# Altium schematic symbol library Capacitors.SchLib: 53 symbols
Pins are listed as number, name and electrical type; pins without a type are passive.

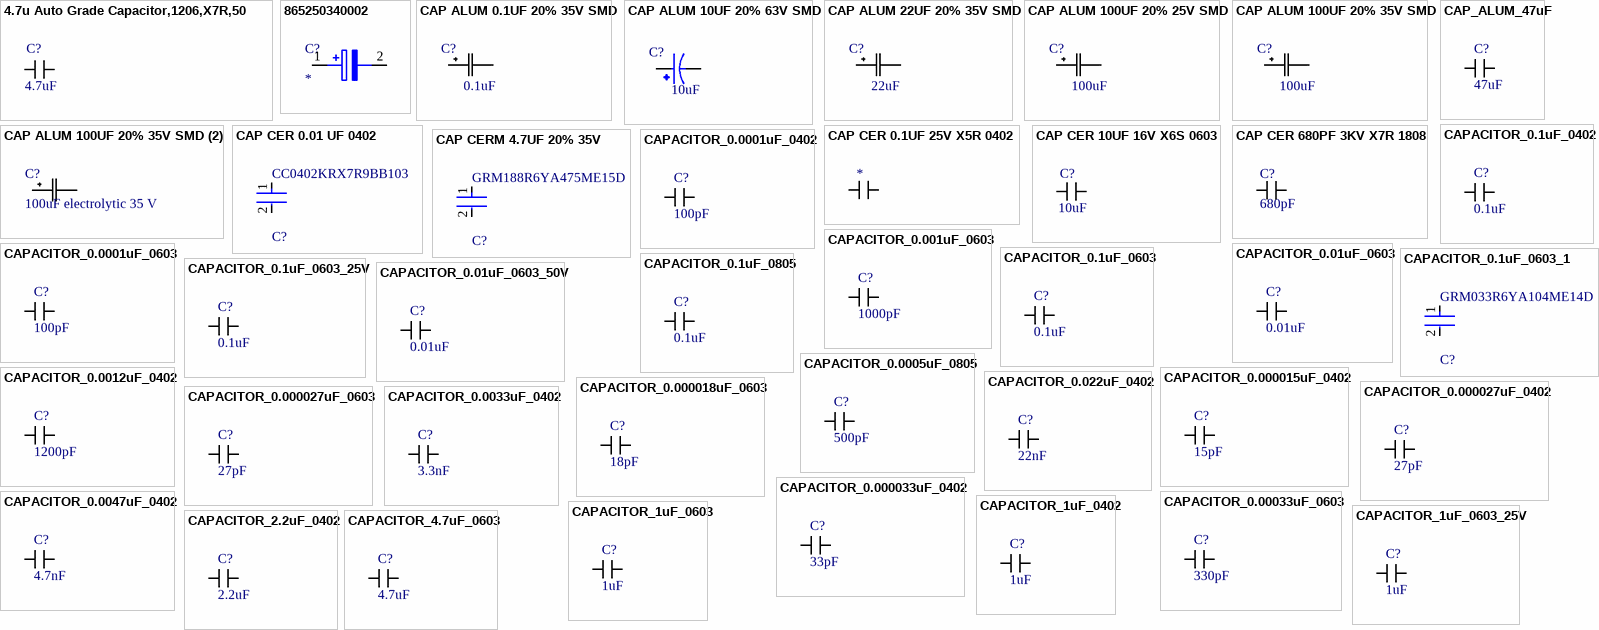
[diagram p0: symbols 4.7u Auto Grade Capacitor,1206,X7R,50 to CAPACITOR_4.7uF_0603]

## 4.7u Auto Grade Capacitor,1206,X7R,50
designator C?, comment value 4.7uF  (hidden comment: AGC1206X7R500-475KXE*)
4.7 µF ±10% 50V Ceramic Capacitor X7R 1206 (3216 Metric)
footprint CAPACITOR_1206
pins: 1, 2

## 865250340002
designator C?
4.7µF 16V Aluminum Electrolytic Capacitors Radial, Can - SMD 2000 Hrs @ 85Â°C; Value: 4.7ÂµF; MP: 865250340002; MF: Wurth Elektronik; SnapEDA_Link: https://www.snapeda.com/parts/865250340002/W%C3%BCrth%20Elektronik/view-part/5002976/?ref=snap; Purchase-URL: https://pricing.snapeda.com/search/part/865250340002/?ref=eda; Check_prices: https://www.snapeda.com/parts/865250340002/W%C3%BCrth%20Elektronik/view-part/5002976/?ref=eda; Availability: Warning; Price: None; Package: None; Supplier 1: Mouser; Supplier Part Number 1: 710-865250340002
footprint CAPAE430X550N
pins: 1 POS (io), 2 NEG (io)

## CAP ALUM 0.1UF 20% 35V SMD
designator C?, comment value 0.1uF  (hidden comment: 0.1uF electrolytic 35 V)
0.1 µF 35 V Aluminum Electrolytic Capacitors Radial, Can - SMD 7000 Hrs @ 105°C; Mfr_Name: Nichicon; Manufacturer_Part_Number: UCB1V0R1MCL1GS; Type: DEV; Made by: Tyson Nguyen; Copyright: Copyright (C) 2022 Ultra Librarian. All rights reserved.; RefDes: RefDes; Supplier 1: Digi-Key; Supplier Part Number 1: 493-9956-1-ND
footprint U2-D_NCH
pins: 1, 2

## CAP ALUM 10UF 20% 63V SMD
designator C?, comment value 10uF  (hidden comment: 10uF electrolytic 63V)
10 µF 63 V Aluminum - Polymer Capacitors Radial, Can SMD 120mOhm; Made by: Robert Pafford; Tolerance: +/- 20%; Max Voltage: 63V; Supplier 1: Digi-Key; Supplier Part Number 1: P15466CT-ND
footprint CAP_EEHZC1J100P
pins: 1, 2

## CAP ALUM 22UF 20% 35V SMD
designator C?, comment value 22uF  (hidden comment: 22uF electrolytic 35 V)
22 µF 35 V Aluminum Electrolytic Capacitors Radial, Can - SMD 1000 Hrs; Made by: Robert Pafford; Voltage: 35V; Supplier 1: Digi-Key; Supplier Part Number 1: PCE3952DKR-ND
footprint PCAP_8x5.4-ELECT_NCA
pins: 1, 2

## CAP ALUM 100UF 20% 25V SMD
designator C?, comment value 100uF  (hidden comment: 100uF electrolytic 25 V)
100 µF 25 V Aluminum Electrolytic Capacitors Radial, Can - SMD 2000 Hrs; Mfr_Name: Nichicon; Manufacturer_Part_Number: UCB1V0R1MCL1GS; Type: DEV; Made by: Tyson Nguyen; Copyright: Copyright (C) 2022 Ultra Librarian. All rights reserved.; RefDes: RefDes; Supplier 1: Mouser; Supplier Part Number 1: 647-UCB1E101MNL1GS
footprint PCAP_8x5.4-ELECT_NCA
pins: 1, 2

## CAP ALUM 100UF 20% 35V SMD
designator C?, comment value 100uF  (hidden comment: 100uF electrolytic 35 V)
100 µF 35 V Aluminum Electrolytic Capacitors Radial, Can - SMD 1000 Hrs; Mfr_Name: Nichicon; Manufacturer_Part_Number: UCB1V0R1MCL1GS; Type: DEV; Made by: Tyson Nguyen; Copyright: Copyright (C) 2022 Ultra Librarian. All rights reserved.; RefDes: RefDes; Supplier 1: Mouser; Supplier Part Number 1: 667-EEE-FT1V101AP
footprint PCAP_8x5.4-ELECT_NCA
pins: 1, 2

## CAP ALUM 100UF 20% 35V SMD (2)
designator C?, comment 100uF electrolytic 35 V
Aluminum Electrolytic Capacitors - SMD 35V 100uF 0810 20%; Supplier 1: Mouser; Supplier Part Number 1: 581-AEA0810101M035R; Created By: John Ulm; V: 35V
footprint CAPAE830X1100N
pins: 1, 2

## CAP CER 0.01 UF 0402
designator C?, comment CC0402KRX7R9BB103
CAP CER 10000PF 50V X7R 0402; Manufacturer: YAGEO; Temperature Coefficient: 30ppm/°C; Capacitance: 10 nF; Material: Ceramic; Automotive Grade: NA; Tolerance: 0.1; Value: 10 nF; Device Class L3: Ceramic Capacitors; Temperature: -55°C to +125°C; Footprint Url: http://www.yageo.com/exep/pages/download/literatures/UPY-C_GEN_24.pdf; Ipc Land Pattern Name: CAPC10050X50; Device Class L1: Passive Components; Automotive: No; Octopart: https://octopart.com/cc0402krx7r9bb103-yageo-8376513; Manufacturer Part Number: CC0402KRX7R9BB103; Lead Free: Yes; Temperature Range Low: -55°C; Height: 0.55mm; ComponentLink2URL: http://www.yageo.com/documents/recent/UPY-GP_NP0_16V-to-50V_16.pdf; Category: Cap; ComponentLink2Description: Datasheet; Temperature Range High: +125°C; Digikey Description: CAP CER 10000PF 50V X7R 0402; Voltage Rating: 50 V; Package: CC0402; Device Class L2: Capacitors; Mouser Description: 0402 10 nF 50 V ±10 % Tolerance X7R SMT Multilayer Ceramic Capacitor; RoHS: TRUE; Temperature Characteristic: X7R; Supplier 1: Future Electronics; Supplier Part Number 1: 8570871
footprint CAPACITOR_0402
pins: 1, 2

## CAP CER 0.1UF 25V X5R 0402
designator *, comment *CL05A104KA5NNNC  (value not drawn)
0.1 µF ±10% 25V Ceramic Capacitor X5R 0402 (1005 Metric); Name: Zach Ramsey; Capacitance: 0.1uF; Tolerance: +/- 10%; ComponentLink1Description: Data Sheet; ComponentLink1URL: https://mm.digikey.com/Volume0/opasdata/d220001/medias/docus/503/CL05A104KA5NNNC.pdf; Rated Voltage: 25V; Supplier 1: Arrow Electronics; Supplier Part Number 1: CL05A104KA5NNNC
footprint CAPACITOR_0402
pins: 1, 2

## CAP CER 10UF 16V X6S 0603
designator C?, comment value 10uF  (hidden comment: CL10X106MO8NRNC)
10 µF ±20% 16V Ceramic Capacitor X6S 0603 (1608 Metric)
footprint CAPACITOR_0603 (CAPACITOR 0603)
pins: 1, 2

## CAP CER 680PF 3KV X7R 1808
designator C?, comment value 680pF  (hidden comment: CC1808KKX7REBB681)
CAP CER 680PF 3KV X7R 1808
footprint CAPACITOR_1808 (Chip Capacitor, 2-Leads, Body 4.50x2.00mm, IPC Medium Density)
pins: 1, 2

## CAP CERM 4.7UF 20% 35V
designator C?, comment GRM188R6YA475ME15D
Chip Multilayer Ceramic Capacitors for General Purpose, 0603, 4.7uF, X5R, 15%, 20%, 35V; Voltage Rating (DC): 35V; Capacitance: 4.7uF; Dielectric: X5R; Case/Package: 0603; Min Operating Temperature: -55°C; Weight: 0.000222oz; Tolerance: 20%; Termination: SMD/SMT; Case Code (Imperial): 0603; Resistor Type: Ceramic; Thickness: 0.039inch; Case Code (Metric): 1608; Width: 0.8mm; Max Operating Temperature: 85°C; Mount: Surface Mount; Length: 0.063inch; Package Quantity: 4000; Height: 0.8mm; Voltage Rating: 35V; Packaging: Tape and Reel; Supplier 1: Arrow Electronics; Supplier Part Number 1: GRM188R6YA475ME15D
footprint CAPACITOR_0603 (CAPACITOR 0603)
pins: 1, 2

## CAP_ALUM_47uF
designator C?, comment value 47uF  (hidden comment: 47uF Electrolytic 50V)
CAP ALUM 47uF 50V +/-20% / 8x5.4; Voltage: 6.3V; Made By: Flip B; ComponentLink1Description: Datsheet; ComponentLink1URL: https://www.mouser.com/datasheet/2/212/KEM_C1002_X7R_SMD-1102033.pdf; Tolerance: +/- 20%; Supplier 1: Digi-Key; Supplier Part Number 1: PCE3815CT-ND
footprint PCAP_8x5.4-ELECT_NCA
pins: 1, 2

## CAPACITOR_0.0001uF_0402
designator C?, comment value 100pF  (hidden comment: 100pF Ceramic 25V)
Cap 100pF 25V +/-10% / Ceramic 0402; Made By: Robert Pafford; Tolerance: +/- 10%; Voltage: 25V; Supplier 1: Digikey; Supplier Part Number 1: 399-C0402C101K3GAC7867CT-ND
footprint CAPACITOR_0402
pins: 1, 2

## CAPACITOR_0.1uF_0402
designator C?, comment value 0.1uF  (hidden comment: 100nF Ceramic 25V)
Cap 100nF 25V +/-10% / Ceramic 0402; Made By: Robert Pafford; Tolerance: +/- 10%; Voltage: 25V; Supplier 1: Future Electronics; Supplier Part Number 1: 7029569
footprint CAPACITOR_0402
pins: 1, 2

## CAPACITOR_0.001uF_0603
designator C?, comment value 1000pF  (hidden comment: 1000pF Ceramic 50V)
Cap 1000pF 50V +/-2% / Ceramic 0603; Voltage: 50; Made By: Flip B; ComponentLink1Description: Datsheet; ComponentLink1URL: https://datasheets.avx.com/C0GNP0-Dielectric.pdf; Tolerance: +/- 2%; Supplier 1: Arrow Electronics; Supplier Part Number 1: C0603C102K5RACTU
footprint CAPACITOR_0603 (CAPACITOR 0603)
pins: 1, 2

## CAPACITOR_0.0001uF_0603
designator C?, comment value 100pF  (hidden comment: 100pF Ceramic 50V)
CAP CER 100PF 50V C0G/NP0 0603; Tolerance: +/- 5%; Made By: Robert Pafford; Voltage: 50V; Supplier 1: Arrow Electronics; Supplier Part Number 1: CL10C101JB8NNNC
footprint CAPACITOR_0603 (CAPACITOR 0603)
pins: 1, 2

## CAPACITOR_0.01uF_0603
designator C?, comment value 0.01uF  (hidden comment: 10nF Ceramic 6.3V)
Cap 10nF 6.3V +/-20% / Ceramic 0603; Tolerance: +/- 10%; Made By: Flip B; ComponentLink1Description: Datsheet; ComponentLink1URL: https://www.mouser.com/datasheet/2/212/KEM_C1002_X7R_SMD-1102033.pdf; Voltage: 6.3V; Supplier 1: Mouser; Supplier Part Number 1: 80-C0603C103K9R
footprint CAPACITOR_0603 (CAPACITOR 0603)
pins: 1, 2

## CAPACITOR_0.1uF_0603
designator C?, comment value 0.1uF  (hidden comment: 100nF Ceramic 6.3V)
Cap 100nF 6.3V +/-10% / Ceramic 0603; Made By: Flip B; ComponentLink1Description: Datsheet; ComponentLink1URL: https://www.mouser.com/datasheet/2/212/KEM_C1002_X7R_SMD-1102033.pdf; Tolerance: +/- 10%; Voltage: 6.3V; Supplier 1: Digi-Key; Supplier Part Number 1: 399-15351-1-ND
footprint CAPACITOR_0603 (CAPACITOR 0603)
pins: 1, 2

## CAPACITOR_0.1uF_0603_1
designator C?, comment GRM033R6YA104ME14D
Chip Multilayer Ceramic Capacitors for General Purpose, 0201, 0.10uF, X5R, 15%, 20%, 35V; Capacitance: 100nF; Case/Package: 0201; Mount: Surface Mount; Voltage Rating (DC): 35V; Weight: 1.2E-05oz; Case Code (Metric): 0603; Min Operating Temperature: -55°C; Tolerance: 20%; Thickness: 0.013inch; Case Code (Imperial): 0201; Dielectric: X5R; Termination: SMD/SMT; Length: 0.024inch; Height: 0.3mm; Package Quantity: 15000; Width: 0.012inch; Voltage Rating: 35V; Max Operating Temperature: 85°C; Packaging: Tape and Reel; Supplier 1: Arrow Electronics; Supplier Part Number 1: GRM033R6YA104ME14D
footprint FP-GRM033-0_03-IPC_C
pins: 1, 2

## CAPACITOR_0.1uF_0603_25V
designator C?, comment value 0.1uF  (hidden comment: 100nF Ceramic 25V)
Cap 100nF 25V +/-10% / Ceramic 0603; Voltage: 6.3V; Made By: Flip B; ComponentLink1Description: Datsheet; ComponentLink1URL: https://www.mouser.com/datasheet/2/212/KEM_C1002_X7R_SMD-1102033.pdf; Tolerance: +/- 10%; Supplier 1: Digikey; Supplier Part Number 1: 1276-1006-1-ND
footprint CAPACITOR_0603 (CAPACITOR 0603)
pins: 1, 2

## CAPACITOR_0.01uF_0603_50V
designator C?, comment value 0.01uF  (hidden comment: CL10B103KB8NNNC)
10000 pF ±10% 50V Ceramic Capacitor X7R 0603 (1608 Metric); Tolerance: +/- 10%; Voltage: 6.3V; Made By: Flip B; ComponentLink1Description: Datsheet; ComponentLink1URL: https://www.mouser.com/datasheet/2/212/KEM_C1002_X7R_SMD-1102033.pdf; Supplier 1: Arrow Electronics; Supplier Part Number 1: CL10B103KB8NNNC
footprint CAPACITOR_0603 (CAPACITOR 0603)
pins: 1, 2

## CAPACITOR_0.1uF_0805
designator C?, comment value 0.1uF  (hidden comment: 100nF Ceramic 50V)
Cap 100nF 50V +/-10% / Ceramic 0805; Made By: Robert Pafford; Tolerance: +/- 10%; Voltage: 50V; Supplier 1: Newark; Supplier Part Number 1: 38AH3645
footprint CAPACITOR_0805 (CAPACITOR 0805)
pins: 1, 2

## CAPACITOR_0.0005uF_0805
designator C?, comment value 500pF  (hidden comment: 500pF Ceramic 50V)
Cap 500pF 50V +/-2% / Ceramic 0805; Voltage: 50; Made By: Flip B; ComponentLink1Description: Datsheet; ComponentLink1URL: https://datasheets.avx.com/C0GNP0-Dielectric.pdf; Tolerance: +/- 2%; Supplier 1: Digi-Key; Supplier Part Number 1: 478-10532-1-ND
footprint CAPACITOR_0805 (CAPACITOR 0805)
pins: 1, 2

## CAPACITOR_0.0012uF_0402
designator C?, comment value 1200pF  (hidden comment: 1200pF Ceramic 50V)
CAP CER 1200PF 50V X7R 0402; Tolerance: +/- 5%; Made By: Robert Pafford; Voltage: 50V; Supplier 1: Future Electronics; Supplier Part Number 1: 5334081
footprint CAPACITOR_0402
pins: 1, 2

## CAPACITOR_0.000015uF_0402
designator C?, comment value 15pF  (hidden comment: 15pF Ceramic 50V)
CAP CER 15PF 50V C0G/NP0 0402; Tolerance: +/- 5%; Made By: Robert Pafford; Voltage: 50V; Supplier 1: Newark; Supplier Part Number 1: 82AC9245
footprint CAPACITOR_0402
pins: 1, 2

## CAPACITOR_0.000018uF_0603
designator C?, comment value 18pF  (hidden comment: 18pF Ceramic 50V)
Cap 18pF 50V +/-5% / Ceramic 0603; Made By: Flip B; ComponentLink1Description: Datsheet; ComponentLink1URL: https://www.mouser.com/datasheet/2/212/KEM_C1002_X7R_SMD-1102033.pdf; Tolerance: +/- 5%; Voltage: 50V; Supplier 1: Digi-Key; Supplier Part Number 1: 311-1061-1-ND
footprint CAPACITOR_0603 (CAPACITOR 0603)
pins: 1, 2

## CAPACITOR_0.022uF_0402
designator C?, comment value 22nF  (hidden comment: 22nF Ceramic 25V)
Cap 22nF 25V +/-10% / Ceramic 0402; Made By: Robert Pafford; Tolerance: +/- 10%; Voltage: 25V; Supplier 1: Digi-Key; Supplier Part Number 1: 445-1261-1-ND
footprint CAPACITOR_0402
pins: 1, 2

## CAPACITOR_0.000027uF_0402
designator C?, comment value 27pF  (hidden comment: 27pF Ceramic 50V)
Cap 27pF 50V +/-5% / Ceramic 0402; Made By: Robert Pafford; Tolerance: +/- 5%; Voltage: 50V; Supplier 1: Digi-Key; Supplier Part Number 1: 445-5589-1-ND
footprint CAPACITOR_0402
pins: 1, 2

## CAPACITOR_0.000027uF_0603
designator C?, comment value 27pF  (hidden comment: 27pF Ceramic 50V)
Cap 27pF 50V +/-5% / Ceramic 0603; Made By: Flip B; ComponentLink1Description: Datsheet; ComponentLink1URL: https://www.mouser.com/datasheet/2/212/KEM_C1002_X7R_SMD-1102033.pdf; Tolerance: +/- 5%; Voltage: 50V; Supplier 1: Digi-Key; Supplier Part Number 1: 311-1063-1-ND
footprint CAPACITOR_0603 (CAPACITOR 0603)
pins: 1, 2

## CAPACITOR_0.000033uF_0402
designator C?, comment value 33pF  (hidden comment: 33pF Ceramic 50V)
CAP CER 33PF 50V C0G/NP0 0402; Tolerance: +/- 5%; Made By: Robert Pafford; Voltage: 50V; Supplier 1: Newark; Supplier Part Number 1: 82AC9259
footprint CAPACITOR_0402
pins: 1, 2

## CAPACITOR_0.0033uF_0402
designator C?, comment value 3.3nF  (hidden comment: 3.3nF Ceramic 50V)
CAP CER 3300PF 50V X7R 0402; Tolerance: +/- 5%; Made By: Robert Pafford; Voltage: 50V; Supplier 1: Arrow Electronics; Supplier Part Number 1: CL05B332KB5NNNC
footprint CAPACITOR_0402
pins: 1, 2

## CAPACITOR_0.00033uF_0603
designator C?, comment value 330pF  (hidden comment: 330pF Ceramic 16V)
Cap 330pF 16V +/-5% / Ceramic 0603; Made By: Flip B; ComponentLink1Description: Datsheet; ComponentLink1URL: https://www.we-online.de/katalog/datasheet/885012006026.pdf; Tolerance: +/- 5%; Voltage: 16V; Supplier 1: Digi-Key; Supplier Part Number 1: 732-7769-1-ND
footprint CAPACITOR_0603 (CAPACITOR 0603)
pins: 1, 2

## CAPACITOR_0.0047uF_0402
designator C?, comment value 4.7nF  (hidden comment: 4700pF Ceramic 25V)
4700 pF +/-10% 25V Ceramic Capacitor X7R 0402; Made By: Robert Pafford; Tolerance: +/- 10%; Voltage: 25V; Supplier 1: Future Electronics; Supplier Part Number 1: 1909415
footprint CAPACITOR_0402
pins: 1, 2

## CAPACITOR_1uF_0402
designator C?, comment value 1uF  (hidden comment: 1uF Ceramic 16V)
Cap 1uF 16V +/-10% / Ceramic 0402; Made By: Robert Pafford; Tolerance: +/- 10%; Voltage: 16V; Supplier 1: Digi-Key; Supplier Part Number 1: 478-0402YD105KAT4ADKR-ND
footprint CAPACITOR_0402
pins: 1, 2

## CAPACITOR_1uF_0603
designator C?, comment value 1uF  (hidden comment: 1uF Ceramic 16V)
Cap 1uF 16V +/-10% / Ceramic 0603; Made By: Flip B; Tolerance: +/- 10%; Voltage: 16V; Supplier 1: Arrow Electronics; Supplier Part Number 1: C1608X7R1C105K080AC
footprint CAPACITOR_0603 (CAPACITOR 0603)
pins: 1, 2

## CAPACITOR_1uF_0603_25V
designator C?, comment value 1uF  (hidden comment: 1uF Ceramic 25V)
Cap 1uF 25V +/-10% / Ceramic 0603; Voltage: 16V; Made By: Flip B; Tolerance: +/- 10%; Supplier 1: Future Electronics; Supplier Part Number 1: 5636071
footprint CAPACITOR_0603 (CAPACITOR 0603)
pins: 1, 2

## CAPACITOR_2.2uF_0402
designator C?, comment value 2.2uF  (hidden comment: 2.2uF Ceramic 35V)
Cap 2.2uF 35V +/-10% / Ceramic 0402; Made By: Flip B; Tolerance: +/- 10%; Voltage: 35V; Supplier 1: Digi-Key; Supplier Part Number 1: 445-9028-1-ND
footprint CAPACITOR_0402
pins: 1, 2

## CAPACITOR_4.7uF_0603
designator C?, comment value 4.7uF  (hidden comment: 4.7uF Ceramic 6.3V)
Cap 4.7uF 6.3V +/-10% / Ceramic 0603; Made By: Robert Pafford; Tolerance: +/- 10%; Voltage: 6.3V; Supplier 1: Digi-Key; Supplier Part Number 1: 1276-2087-1-ND
footprint CAPACITOR_0603 (CAPACITOR 0603)
pins: 1, 2

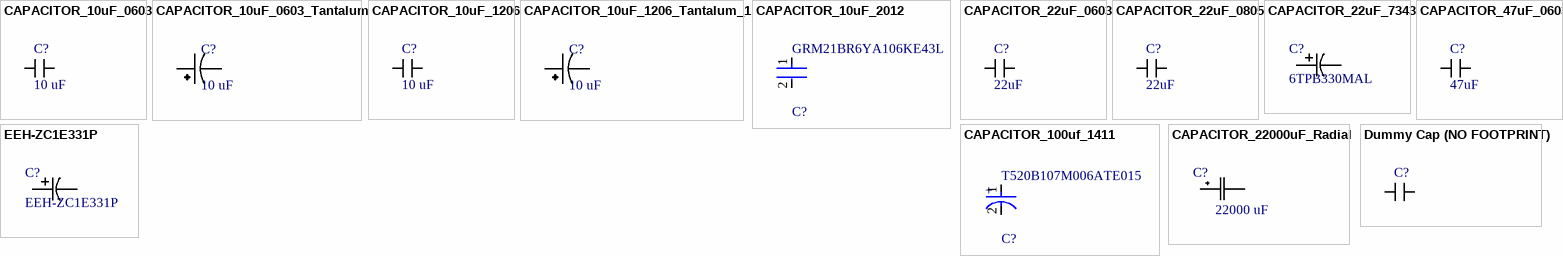
[diagram p1: symbols CAPACITOR_10uF_0603 to EEH-ZC1E331P]

## CAPACITOR_10uF_0603
designator C?, comment Value (uF): 10 uF  (hidden comment: 10uF Ceramic 6.3V)
Cap 10uF 6.3V +/-20% / Ceramic 0603; Made By: Flip B; ComponentLink1Description: Digikey; ComponentLink1URL: https://www.digikey.com/en/products/detail/samsung-electro-mechanics/CL10A106MQ8NNNC/3886777; Supplier 1: Digi-Key; Supplier Part Number 1: 1276-1119-1-ND; Tolerance: +/- 20%; Voltage: 6.3V
footprint CAPACITOR_0603 (CAPACITOR 0603)
pins: 1, 2

## CAPACITOR_10uF_0603_Tantalum
designator C?, comment Value (uF): 10 uF  (hidden comment: 10uF Tantalum 10V)
Cap 10uF 10V +/-20% / Tantalum 0603; Made By: John S; ComponentLink1Description: Digikey; ComponentLink1URL: https://www.digikey.com/en/products/detail/kyocera-avx/F981A106MMA/4004990; Tolerance: +/- 20%; Voltage: 10V; Supplier 1: Mouser; Supplier Part Number 1: 74-TR8M106M010C2000
footprint CAPACITOR_0603 - Polar (CAPACITOR 0603)
pins: 1, 2

## CAPACITOR_10uF_1206
designator C?, comment Value (uF): 10 uF  (hidden comment: 10uF Ceramic 25V)
Cap 10uF 25V +/-10% / Ceramic 1206; Made By: Robert Pafford; Tolerance: +/- 10%; Voltage: 25V; Supplier 1: Digi-Key; Supplier Part Number 1: 1276-1804-6-ND
footprint CAPACITOR_1206
pins: 1, 2

## CAPACITOR_10uF_1206_Tantalum_1
designator C?, comment Value (uF): 10 uF  (hidden comment: 10uF Tantalum 16V)
Cap 10uF 16V +/-20% / Tantalum 1206; Tolerance: +/- 10%; Made By: Dylan T; ComponentLink1Description: Digikey; ComponentLink1URL: https://www.digikey.com/en/products/detail/kyocera-avx/F981A106MMA/4004990; Voltage: 16V; Supplier 1: Newark; Supplier Part Number 1: 26AC4143
footprint CAPACITOR_1206 - POLAR
pins: 1, 2

## CAPACITOR_10uF_2012
designator C?, comment GRM21BR6YA106KE43L
Chip Multilayer Ceramic Capacitors for General Purpose, 0805, 10uF, X5R, 15%, 10%, 35V; Max Operating Temperature: 85°C; REACH SVHC: No SVHC; Packaging: Tape and Reel; Thickness: 0.057inch; Tolerance: 10%; Capacitance: 10uF; Case Code (Imperial): 0805; Height: 1.25mm; Width: 0.049inch; Length: 0.079inch; Lead Free: Lead Free; Voltage Rating: 35V; Case/Package: 0805; Dielectric: X5R; Min Operating Temperature: -55°C; Package Quantity: 3000; Termination: SMD/SMT; Case Code (Metric): 2012; Weight: 0.000335oz; Mount: Surface Mount; Voltage Rating (DC): 35V; Supplier 1: Arrow Electronics; Supplier Part Number 1: GRM21BR6YA106KE43L
footprint FP-GRM21B-0_2-e0_2_0_7-IPC_B
pins: 1, 2

## CAPACITOR_22uF_0603
designator C?, comment value 22uF  (hidden comment: 22uF Ceramic)
Cap 22uF 6.3V +/-20% / Ceramic 0603; Made By: Flip B; Tolerance: +/- 20%; Voltage: 6.3V; Supplier 1: Digi-Key; Supplier Part Number 1: 445-8028-1-ND
footprint CAPACITOR_0603 (CAPACITOR 0603)
pins: 1, 2

## CAPACITOR_22uF_0805
designator C?, comment value 22uF  (hidden comment: 22uF Ceramic 10V)
Cap 22uF 10V +/-20% X5R / Ceramic 0805; Made By: Robert Pafford; Tolerance: +/- 20%; Voltage: 10V; Supplier 1: Digi-Key; Supplier Part Number 1: 445-7665-6-ND
footprint CAPACITOR_0805 (CAPACITOR 0805)
pins: 1, 2

## CAPACITOR_22uF_7343
designator C?, comment 6TPB330MAL
22 µF Molded Tantalum Polymer Capacitor 25 V 2917 (7343 Metric) 70mOhm @ 100kHz; Mfr_Name: Panasonic; Type: DEV; Copyright: Copyright (C) 2023 Ultra Librarian. All rights reserved.; Manufacturer_Part_Number: 6TPB330MAL; RefDes: RefDes; Supplier 1: Mouser; Supplier Part Number 1: 667-6TPB330MAL
footprint PCAP_TPB_D3L_PAN
pins: 1, 2

## CAPACITOR_47uF_0603
designator C?, comment value 47uF  (hidden comment: 47uF Ceramic 6.3V)
Cap 47uF 6.3V +/-20% / Ceramic 0603; Made By: Flip B; ComponentLink1Description: Datsheet; ComponentLink1URL: https://www.mouser.com/datasheet/2/212/KEM_C1002_X7R_SMD-1102033.pdf; Tolerance: +/- 20%; Voltage: 6.3V; Supplier 1: Digi-Key; Supplier Part Number 1: 490-13247-1-ND
footprint CAPACITOR_0603 (CAPACITOR 0603)
pins: 1, 2

## CAPACITOR_100uf_1411
designator C?, comment T520B107M006ATE015
CAP TANT POLY 100UF 6.3V 1411; Dissipation Factor: 8%; Tolerance: 20%; Life (Hours): 2000Hour; Dielectric Material: Tantalum; Polarity: Polar; ESR (Equivalent Series Resistance): 15mR; Leakage Current: 63uA; Construction: Flat; Length: 3.5mm; REACH SVHC: No SVHC; Case/Package: 1411; Voltage Rating (DC): 6.3V; Series: KO-CAP T520; Max Operating Temperature: 105°C; Min Operating Temperature: -55°C; Mount: Surface Mount; Width: 0.11inch; Depth: 2.8mm; Case Code (Imperial): 1411; Termination: SMD/SMT; Features: General Purpose; Voltage Rating: 6.3V; Case Code (Metric): 3528; Radiation Hardening: No; Voltage: 6.3V; Capacitance: 100uF; Package Quantity: 1; RoHS Compliant: Yes; Height: 1.9mm; Number of Pins: 2; Packaging: Tape and Reel; Height - Seated (Max): 0.083inch; Supplier 1: Mouser; Supplier Part Number 1: 80-T520B107M6ATE15
footprint CAPACITOR_1206 - POLAR
pins: 1 A, 2 C
text: +

## CAPACITOR_22000uF_Radial
designator C?, comment Cap 22000uF 22V +/-20% Aluminum  (value not drawn)
Cap 22000uF 25V 20% Aluminum Radial Through Hole; Voltage Range: 6.3-450V; Made By: Cole Davis; Verified By: Name; Value: 22000uF; Supplier 1: Digi-Key; Supplier Part Number 1: 493-12405-ND
footprint UVK1E223MRD
footprint UVK1E223MRD_RA
pins: 1, 2
text: 22000 uF

## Dummy Cap (NO FOOTPRINT)
designator C?
Dummy Capacitor for ESC board Schematic (NO FOOTPRINT); Made By: Nathan Ayer
pins: 1, 2

## EEH-ZC1E331P
designator C?
No Description Available; Mfr_Name: Panasonic; Type: DEV; Copyright: Copyright (C) 2024 Ultra Librarian. All rights reserved.; Manufacturer_Part_Number: EEH-ZC1E331P; RefDes: RefDes
footprint PCAP_EEHZ_G_PAN
pins: 1, 2